# EAGLE library part LED-DRIVER-24CH-TLC5947 (library FlashPCB_ICs)
TLC5947 - IC LED DRVR LINEAR 30MA 32HTSSOP Technical Specifications: LED Driver IC 24 Output Linear Shift Register Dimming 30mA 32-HTSSOP 12-Bit PWM Grayscale Control Driver Type: Linear Shift Register Outputs: 24 LED Supply Voltage: Up to 30V LED Channel Current: 30mA VCC: 3V~5.5V Data Rate: Up to 30MHz Standalone, 15MHz Cascaded 4MHz Internal Oscillator Component Search: TLC5947 <https://www.flashpcb.com/components> Datasheet: TLC5947 24-Channel, 12-Bit PWM LED Driver With Internal Oscillator datasheet (Rev. B) <https://www.ti.com/lit/ds/symlink/tlc5947.pdf>
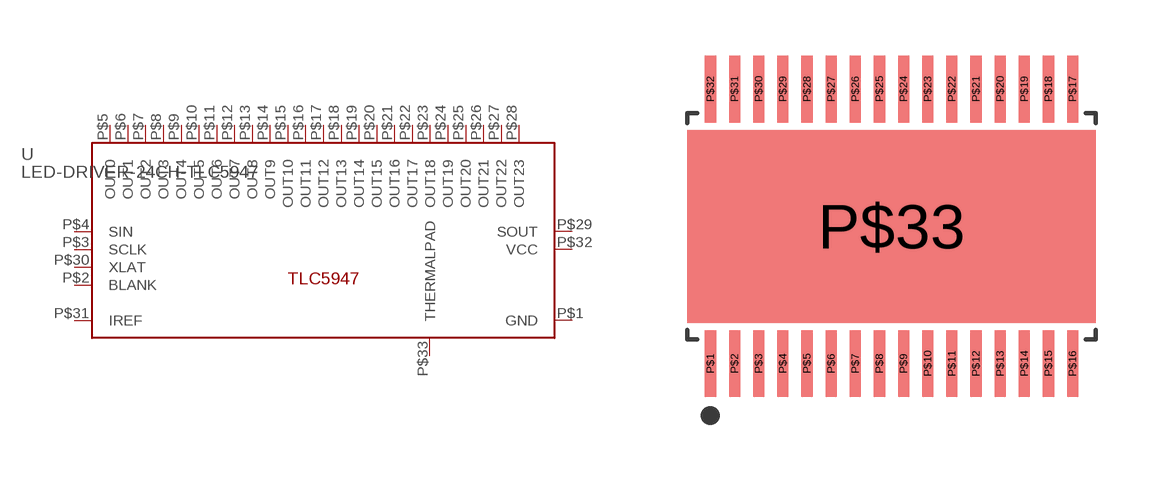
[diagram p54: symbol with the pads of 32-HTSSOP; footprint 32-HTSSOP]

Designator prefix U

## LED-DRIVER-24CH-TLC5947DAP  [32-HTSSOP]
P$1  GND
P$2  BLANK
P$3  SCLK
P$4  SIN
P$5  OUT0
P$6  OUT1
P$7  OUT2
P$8  OUT3
P$9  OUT4
P$10  OUT5
P$11  OUT6
P$12  OUT7
P$13  OUT8
P$14  OUT9
P$15  OUT10
P$16  OUT11
P$17  OUT12
P$18  OUT13
P$19  OUT14
P$20  OUT15
P$21  OUT16
P$22  OUT17
P$23  OUT18
P$24  OUT19
P$25  OUT20
P$26  OUT21
P$27  OUT22
P$28  OUT23
P$29  SOUT
P$30  XLAT
P$31  IREF
P$32  VCC
P$33  THERMALPAD

## Footprint 32-HTSSOP (pad centres in mm)
smd 0.3 x 1.8: P$1 -4.875,-3.7; P$2 -4.225,-3.7; P$3 -3.575,-3.7; P$4 -2.925,-3.7; P$5 -2.275,-3.7; P$6 -1.625,-3.7; P$7 -0.975,-3.7; P$8 -0.325,-3.7; P$9 0.325,-3.7; P$10 0.975,-3.7; P$11 1.625,-3.7; P$12 2.275,-3.7; P$13 2.925,-3.7; P$14 3.575,-3.7; P$15 4.225,-3.7; P$16 4.875,-3.7; P$17 4.875,3.7; P$18 4.225,3.7; P$19 3.575,3.7; P$20 2.925,3.7; P$21 2.275,3.7; P$22 1.625,3.7; P$23 0.975,3.7; P$24 0.325,3.7; P$25 -0.325,3.7; P$26 -0.975,3.7; P$27 -1.625,3.7; P$28 -2.275,3.7; P$29 -2.925,3.7; P$30 -3.575,3.7; P$31 -4.225,3.7; P$32 -4.875,3.7
smd 11 x 5.2: P$33 0,0